# EAGLE library part MOLEX_503182-1853 (library Molex - 503182-1853)
microSD Memory Card Connector
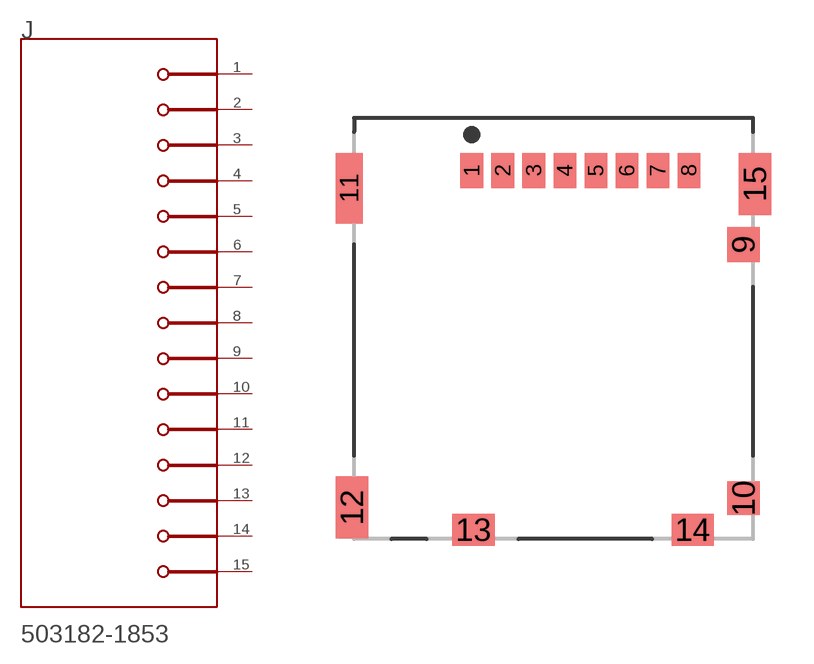
[diagram p0: symbol with the pads of MOLEX_503182-1853_0; footprint MOLEX_503182-1853_0]

Designator prefix J

## MOLEX_503182-1853MOLEX_503182-1853_0_0 (CARD_DETECTION_SWITCH: Yes; CENTROID_NOT_SPECIFIED: No; CIRCUITS: 8; CURRENT-MAX_PER_CONTACT: 0.5A; DATASHEET: http://www.molex.com/pdm_docs/sd/5031821853_sd.pdf; DIGIKEY_DESCRIPTION: CONN 10 (8 + 2) Position Card Connector Secure Digital - microSD™ Surface Mount, Right Angle Gold; DIGIKEY_PART_NUMBER: WM9750CT-ND; ENTRY_ANGLE: 90° Angle; IS_FEMALE: yes; LEAD_FREE: yes; MF: Molex; MFG_PACKAGE_IDENT: 5031821853; MOUNTING_TYPE: Surface Mount, Right Angle; MOUSER_PART_NUMBER: 538-503182-1853; MPN: 503182-1853; PACKAGE: CONN_MICRO_SD; PREFIX: J; ROHS: yes; TEMPERATURE_RANGE_HIGH: +85°C; TEMPERATURE_RANGE_LOW: -25°C; VOLTAGE: 10V AC(RMS)/DC)  [MOLEX_503182-1853_0]
1  DATA2
2  CD/DAT3
3  CMD
4  VDD  pas
5  CLK  pas
6  VSS  pas
7  DAT0  pas
8  DAT1  pas
9  MNT_1
10  MNT_2
11  SWITCH
12  MNT_3
13  DETECT
14  MNT_4
15  MNT_5

## Footprint MOLEX_503182-1853_0 (pad centres in mm)
microSD Memory Card Connector
smd 0.8 x 1.24: 1 -2.9,5.605; 2 -1.8,5.605; 3 -0.7,5.605; 4 0.4,5.605; 5 1.5,5.605; 6 2.6,5.605; 7 3.7,5.605; 8 4.8,5.605
smd 1.16 x 1.25: 9 6.74,2.975
smd 1.16 x 1.2: 10 6.74,-6.025
smd 0.95 x 2.5: 11 -7.245,4.975
smd 1.15 x 2.2: 12 -7.145,-6.355; 15 7.145,5.125
smd 1.5 x 1.15: 13 -2.84,-7.15; 14 4.94,-7.15